# EAGLE library part LT3020EMS8-ADJ (library Sightline)
LT3020EMS8-ADJ-MSOP8 IC, VOLTAGE REGULATOR, POSITIVE, VLDO, ADJ, 100mA, 0.2 TO 9.5V OUTPUT, MSOP8 Specifications Manufacturer: Linear Technology Manufacturer Part Number: LT302OEMS8#PBF Body Size(mm): 3 x 3 LT3020 DATASHEET <https://www.analog.com/media/en/technical-documentation/data-sheets/3020fc.pdf> Created by: Kimball S. Davis 22 January 2019 Version 001
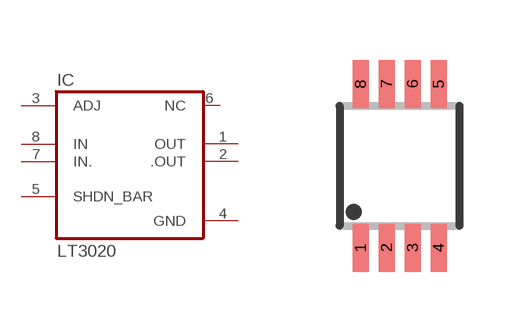
[diagram p2: symbol with the pads of MSOP8; footprint MSOP8]

Designator prefix IC

## LT3020EMS8-ADJ (DESCRIPTION: IC, VOLTAGE REGULATOR, POSITIVE, VLDO, ADJ, 100mA, 0.2 TO 9.5V OUTPUT, MSOP8; MANF: LINEAR TECHNOLOGY; MANF#: LT302OEMS8#PBF)  [MSOP8]
1  OUT
2  .OUT
3  ADJ
4  GND
5  SHDN_BAR
6  NC  nc
7  IN.
8  IN

## Footprint MSOP8 (pad centres in mm)
MSOP8
smd 0.4 x 1.2: 1 -0.975,-2.05; 2 -0.325,-2.05; 3 0.325,-2.05; 4 0.975,-2.05; 5 0.975,2.05; 6 0.325,2.05; 7 -0.325,2.05; 8 -0.975,2.05